# Altium footprint library RDA5981.PcbLib: 33 footprints (part 2 of 3)
Each footprint in its own frame and in the unit in brackets; x right, y up, seen from the top. Pads: shape width x height; smd on the part's side, far side on the other; paste and mask are expansions set on the pad; w line width, h text height; cw(c..) or ccw(c..) is an arc to the next point about the centre after c.
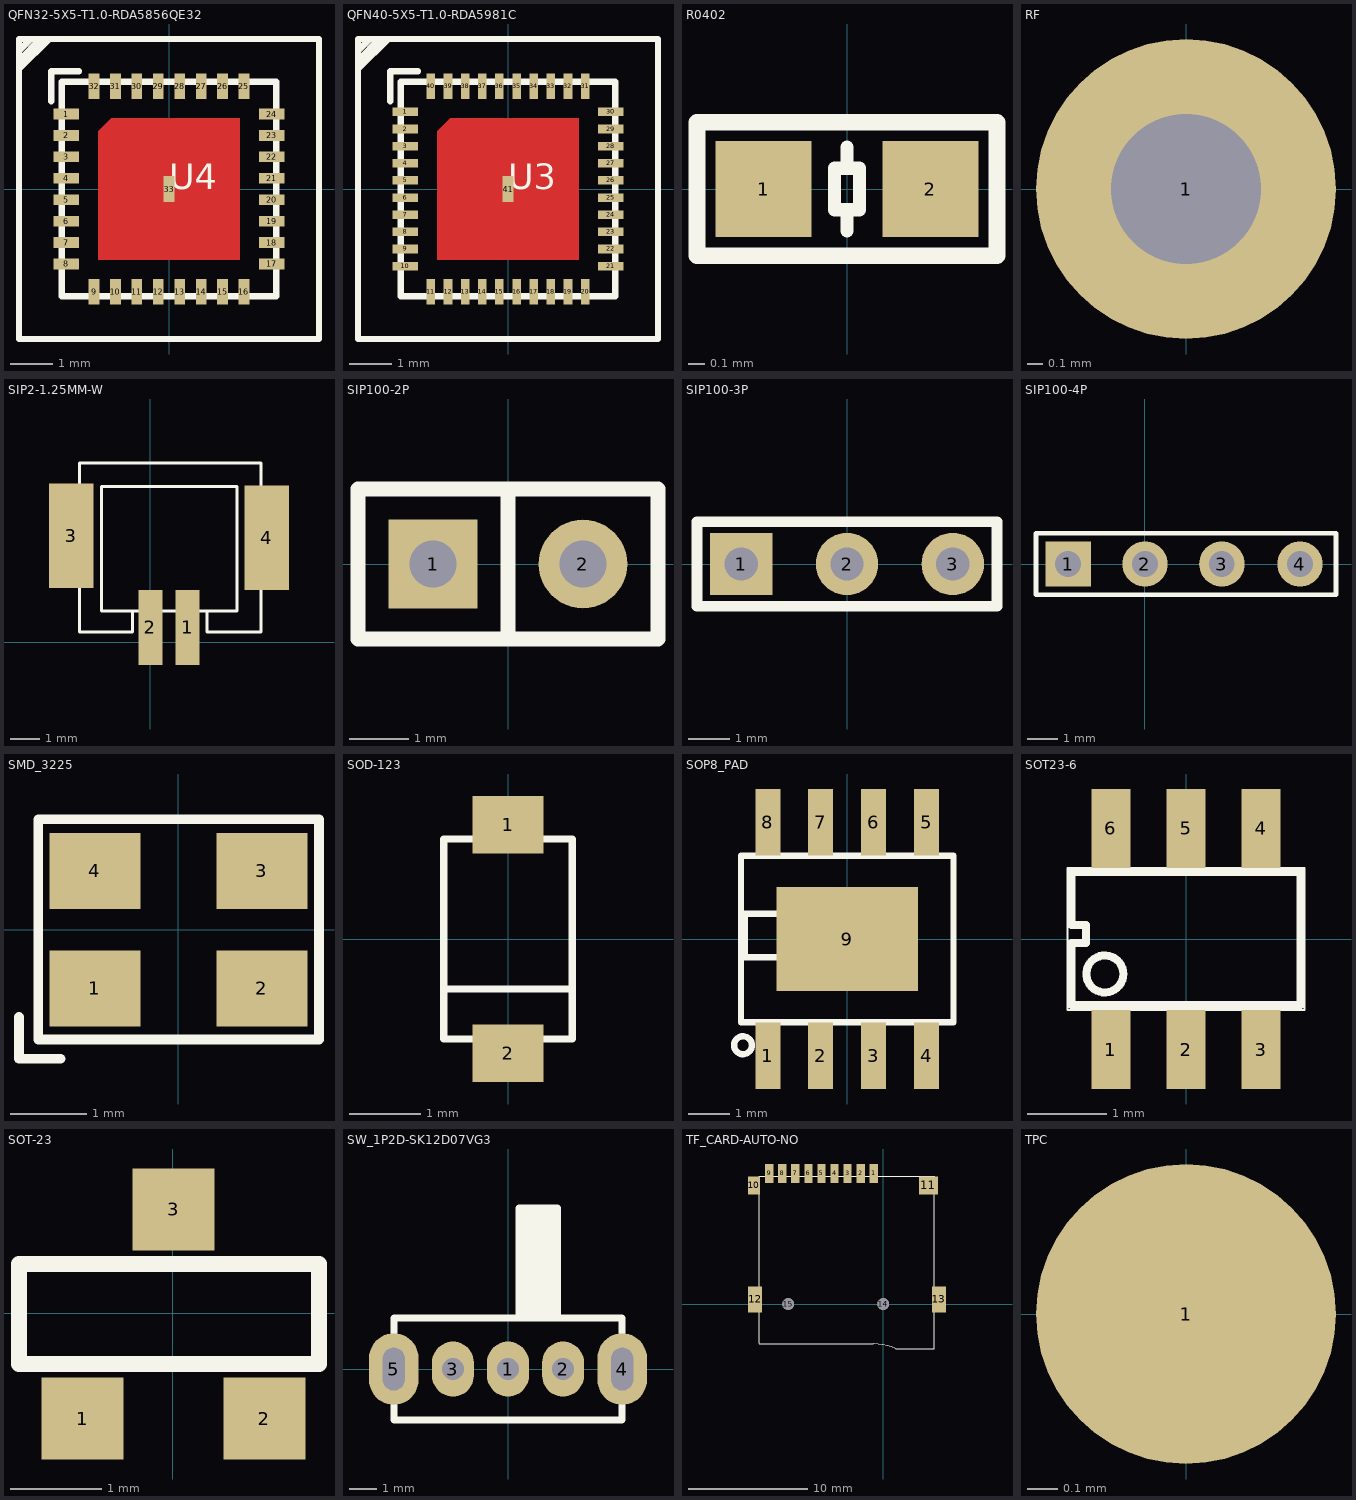
[diagram p1: the footprints below, top view; thin cyan lines are the x and y axes]

## QFN32-5X5-T1.0-RDA5856QE32 [mm]
pads (33):
  rect 0.6x0.25 smd: 1(-2.4,1.75) 2(-2.4,1.25) 3(-2.4,0.75) 4(-2.4,0.25) 5(-2.4,-0.25) 6(-2.4,-0.75) 7(-2.4,-1.25) 8(-2.4,-1.75) 17(2.4,-1.75) 18(2.4,-1.25) 19(2.4,-0.75) 20(2.4,-0.25) 21(2.4,0.25) 22(2.4,0.75) 23(2.4,1.25) 24(2.4,1.75)
  rect 0.25x0.6 smd: 9(-1.75,-2.4) 10(-1.25,-2.4) 11(-0.75,-2.4) 12(-0.25,-2.4) 13(0.25,-2.4) 14(0.75,-2.4) 15(1.25,-2.4) 16(1.75,-2.4) 25(1.75,2.4) 26(1.25,2.4) 27(0.75,2.4) 28(0.25,2.4) 29(-0.25,2.4) 30(-0.75,2.4) 31(-1.25,2.4) 32(-1.75,2.4) 33(0,0)
Top Layer:
  region: -1.65,1.35 -1.35,1.65 1.65,1.65 1.65,-1.65 -1.65,-1.65
Top Overlay:
  lines w0.15: -3.475,3.25 -3.25,3.475 ; -3.45,2.85 -2.825,3.475 ; -3.45,3.05 -3.025,3.475 ; -2.75,2.05 -2.75,2.75 -2.1,2.75 ; -3.5,-3.5 -3.5,3.5 3.5,3.5 3.5,-3.5 -3.5,-3.5 ; -2.5,-2.5 -2.5,2.5 2.5,2.5 2.5,-2.5 -2.5,-2.5
  text "U4" at 0,0 h0.6
Top Paste:
  region: -1.65,0.2 -0.2,0.2 -0.2,1.65 -1.65,1.65
  region: 0.2,0.2 1.65,0.2 1.65,1.65 0.2,1.65
  region: -1.65,-1.65 -0.2,-1.65 -0.2,-0.2 -1.65,-0.2
  region: 0.2,-1.65 1.65,-1.65 1.65,-0.2 0.2,-0.2

## QFN40-5X5-T1.0-RDA5981C [mm]
pads (41):
  rect 0.6x0.2 smd: 1(-2.4,1.8) 2(-2.4,1.4) 3(-2.4,1) 4(-2.4,0.6) 5(-2.4,0.2) 6(-2.4,-0.2) 7(-2.4,-0.6) 8(-2.4,-1) 9(-2.4,-1.4) 10(-2.4,-1.8) 21(2.4,-1.8) 22(2.4,-1.4) 23(2.4,-1) 24(2.4,-0.6) 25(2.4,-0.2) 26(2.4,0.2) 27(2.4,0.6) 28(2.4,1) 29(2.4,1.4) 30(2.4,1.8)
  rect 0.2x0.6 smd: 11(-1.8,-2.4) 12(-1.4,-2.4) 13(-1,-2.4) 14(-0.6,-2.4) 15(-0.2,-2.4) 16(0.2,-2.4) 17(0.6,-2.4) 18(1,-2.4) 19(1.4,-2.4) 20(1.8,-2.4) 31(1.8,2.4) 32(1.4,2.4) 33(1,2.4) 34(0.6,2.4) 35(0.2,2.4) 36(-0.2,2.4) 37(-0.6,2.4) 38(-1,2.4) 39(-1.4,2.4) 40(-1.8,2.4)
  rect 0.25x0.6 smd: 41(0,0)
Top Layer:
  region: -1.65,1.35 -1.35,1.65 1.65,1.65 1.65,-1.65 -1.65,-1.65
Top Overlay:
  lines w0.15: -3.475,3.25 -3.25,3.475 ; -3.45,2.85 -2.825,3.475 ; -3.45,3.05 -3.025,3.475 ; -2.75,2.05 -2.75,2.75 -2.1,2.75 ; -3.5,-3.5 3.5,-3.5 3.5,3.5 -3.5,3.5 -3.5,-3.5 ; -2.5,-2.5 2.5,-2.5 2.5,2.5 -2.5,2.5 -2.5,-2.5
  text "U3" at 0,0 h0.6
Top Paste:
  region: 0.2,-1.65 1.65,-1.65 1.65,-0.2 0.2,-0.2
  region: -1.65,-1.65 -0.2,-1.65 -0.2,-0.2 -1.65,-0.2
  region: 0.2,0.2 1.65,0.2 1.65,1.65 0.2,1.65
  region: -1.65,0.2 -0.2,0.2 -0.2,1.65 -1.65,1.65

## R0402 [mm]
height 0.483
pads (2):
  rect 0.575x0.575 smd: 1(-0.5,0) 2(0.5,0)
Top Overlay:
  lines w0.08: 0,-0.25 0,-0.125 ; 0,0.125 0,0.25 ; -0.075,-0.125 0.075,-0.125 0.075,0.125 -0.075,0.125 -0.075,-0.125
  lines w0.1: -0.9,-0.4 0.9,-0.4 0.9,0.4 -0.9,0.4 -0.9,-0.4

## RF [mm]
pads (1):
  round 2 hole 1: 1(0,0)

## SIP2-1.25MM-W [mm]
pads (4):
  rect 0.8x2.5 smd: 1(1.25,0.5) 2(0,0.5)
  rect 1.5x3.5 smd: 3(-2.65,3.57) 4(3.9,3.501)
Top Overlay:
  lines w0.102: -0.59,0.977 -0.59,0.355 -2.369,0.355 -2.369,6.003 3.7,6.003 3.7,0.355 1.9,0.355 1.9,0.979 ; -1.636,1.048 -1.636,5.23 2.9,5.23 2.9,1.048 -1.636,1.048

## SIP100-2P [mm]
pads (2):
  rect 1.5x1.5 / inner round 1.5 / far side round 1.5 hole 0.8: 1(-1.27,0)
  round 1.5 hole 0.8: 2(1.27,0)
Top Overlay:
  lines w0.254: 0,-1.27 0,1.27 ; -2.54,-1.27 -2.54,1.27 2.54,1.27 2.54,-1.27 -2.54,-1.27

## SIP100-3P [mm]
pads (3):
  rect 1.5x1.5 hole 0.8: 1(-2.54,0)
  round 1.5 hole 0.8: 2(0,0) 3(2.54,0)
Top Overlay:
  lines w0.254: -3.6,-1.016 -3.6,1.016 3.6,1.016 3.6,-1.016 -3.6,-1.016

## SIP100-4P [mm]
pads (4):
  rect 1.5x1.5 / inner rect 1.5x1.5 / far side round 1.5 hole 0.85: 1(-2.54,0)
  round 1.5 hole 0.85: 2(0,0) 3(2.54,0) 4(5.12,0)
Top Overlay:
  lines w0.152: -3.6,-1.016 -3.6,1.016 6.31,1.016 6.31,-1.016 -3.6,-1.016

## SMD_3225 [mm]
pads (4):
  rect 1.2x1 smd: 1(-1.1,-0.775) 2(1.1,-0.775) 3(1.1,0.775) 4(-1.1,0.775)
Top Overlay:
  lines w0.127: -2.1,-1.15 -2.1,-1.7 -1.55,-1.7 ; -1.848,-1.447 -1.848,1.453 1.852,1.453 1.852,-1.447 -1.848,-1.447

## SOD-123 [mm]
height 1.4
pads (2):
  rect 1x0.8 smd: 1(0,1.6) 2(0,-1.6)
Top Overlay:
  lines w0.1: -0.85,-0.7 0.85,-0.7 ; -0.9,-1.4 0.9,-1.4 0.9,1.4 -0.9,1.4 -0.9,-1.4

## SOP8_PAD [mm]
pads (9):
  rect 0.6x1.6 smd: 1(-1.905,-2.8) 2(-0.635,-2.8) 3(0.635,-2.8) 4(1.905,-2.8) 5(1.905,2.8) 6(0.635,2.8) 7(-0.635,2.8) 8(-1.905,2.8)
  rect 3.4x2.5 smd: 9(0,0)
Top Overlay:
  circle w0.152: c-2.499,-2.55 r0.215
  lines w0.152: -2.55,-2 -2.55,2 2.55,2 2.55,-2 -2.55,-2 ; -2.462,-0.436 -2.462,0.61 -1.467,0.61 -1.467,-0.436 -2.462,-0.436

## SOT23-6 [mm]
height 1.3
pads (6):
  rect 0.5x1 smd mask+0.064: 1(-0.95,-1.4) 2(0,-1.4) 3(0.95,-1.4) 4(0.95,1.4) 5(0,1.4) 6(-0.95,1.4)
Top Overlay:
  circle w0.102: c-1.028,-0.443 r0.234
  lines w0.025: -1.5,-0.9 1.5,-0.9 1.5,0.9 -1.5,0.9 -1.5,-0.9
  lines w0.102: -1.45,-0.836 -1.45,-0.049 -1.269,-0.049 -1.269,0.176 -1.45,0.176 -1.45,0.847 1.45,0.847 1.45,-0.836 -1.45,-0.836

## SOT-23 [mm]
height 1
pads (3):
  rect 0.9x0.9 smd: 1(-0.991,-1.161) 2(1.009,-1.161) 3(0.009,1.139)
Top Overlay:
  lines w0.178: -1.691,-0.561 -1.691,0.539 1.609,0.539 1.609,-0.561 -1.691,-0.561

## SW_1P2D-SK12D07VG3 [mm]
pads (5):
  oval 1.524x2 hole 0.8: 1(0,0) 2(2,0) 3(-2,0)
  oval 1.8x2.6 hole 0.8 slot 1.55 at 90 deg: 4(4.15,0) 5(-4.15,0)
Top Overlay:
  region: 0.4,1.85 1.8,1.85 1.8,5.85 0.4,5.85
  lines w0.254: -4.15,-1.85 4.15,-1.85 4.15,1.85 -4.15,1.85 -4.15,-1.85 ; 0.4,1.85 1.8,1.85 1.8,5.85 0.4,5.85 0.4,1.85

## TF_CARD-AUTO-NO [mm]
pads (15):
  rect 0.7x1.6 smd: 1(-0.8,11) 2(-1.9,11) 3(-3,11) 4(-4.1,11) 5(-5.2,11) 6(-6.3,11) 7(-7.4,11) 8(-8.5,11) 9(-9.6,11)
  rect 1x1.5 smd: 10(-10.9,10)
  rect 1.6x1.5 smd: 11(3.8,10)
  rect 1.2x2.2 smd: 12(-10.8,0.4) 13(4.7,0.4)
  round 1 hole 1 unplated: 14(0,0) 15(-8,0)
Top Overlay:
  lines w0.1: -10.432,10.749 4.329,10.749 ; -10.429,-3.35 -0.825,-3.35 ; -10.429,-3.301 -10.429,10.751 ; -0.802,-3.35 cw(c-0.926,-8.411) 1.044,-3.747 ; 1.05,-3.75 4.321,-3.75 ; 4.321,-3.775 4.321,10.751

## TPC [mm]
pads (1):
  round 1 smd: 1(0,0)